# EAGLE library part ADG1201 (library noah)
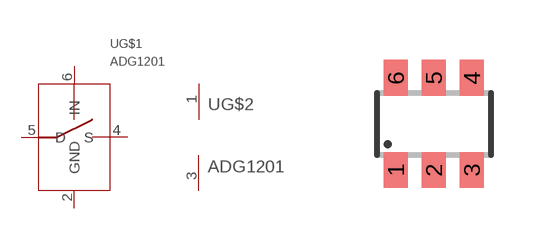
[diagram p50: symbol with the pads of SOT23-6; footprint SOT23-6]

Designator prefix U; gates G$1=ADG G$2=PWR+-

## ADG1201  [SOT23-6]
1  G$2:V+  pwr
2  G$1:GND
3  G$2:V-  pwr
4  G$1:S
5  G$1:D
6  G$1:IN

## Footprint SOT23-6 (pad centres in mm)
Small Outline Transistor 6 lead
smd 0.6 x 0.9: 1 -0.95,-1.15; 2 0,-1.15; 3 0.95,-1.15; 4 0.95,1.15; 5 0,1.15; 6 -0.95,1.15